# Altium integrated library Ecohydro_library.IntLib: 27 symbols
Pins are listed as number, name and electrical type; pins without a type are passive.

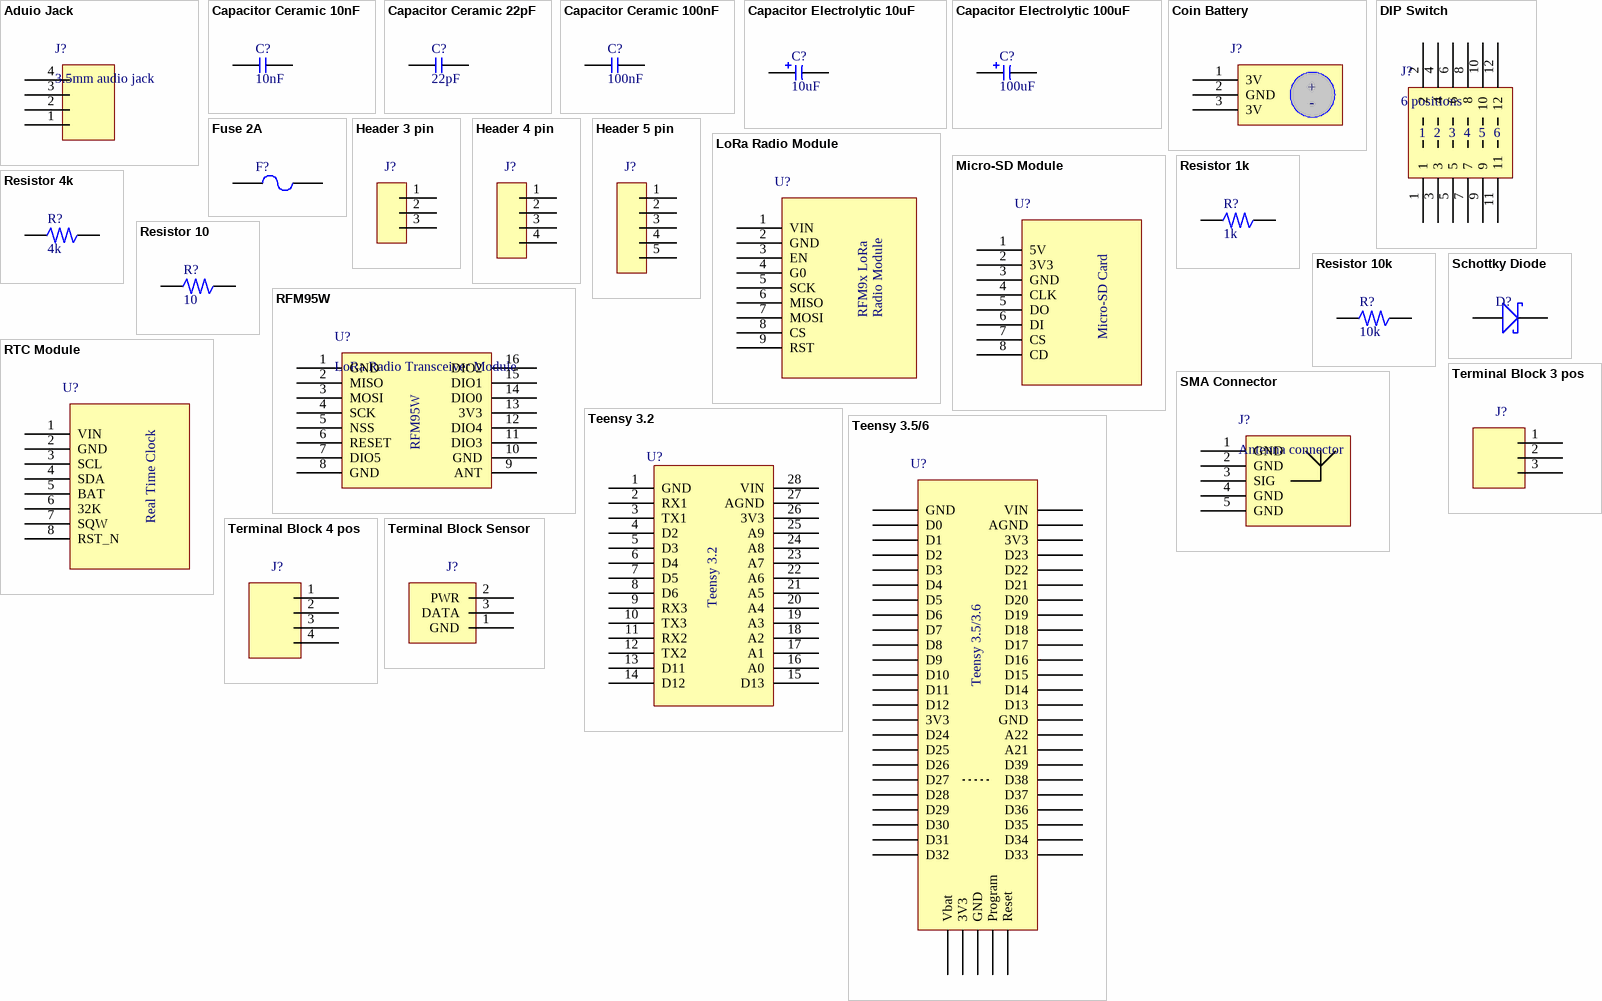
[diagram p0: symbols Aduio Jack to Terminal Block Sensor]

## Aduio Jack
designator J?, comment 3.5mm audio jack
Manufacturer: CUI; Manufacturer Part Number: SJ-3523-SMT-TR; Gender: Female; Shielding: Unshielded; Current Rating: 1A; Number of Conductors: 3; Number of Ports: 1; Supplier 1: Digi-Key; Stock 1: 136338; Pricing 1: 1 = 1.02000, 10 = 0.90000, 25 = 0.84760, 50 = 0.81220, 100 = 0.77680, 250 = 0.70620, 500 = 0.63558 (USD); RoHS: Yes; Mount: Surface Mount; Contact Plating: Silver; Color: Black; Packaging: Cut Tape; Termination: Solder; Connector Type: Jack; Orientation: Horizontal; Lead Free: Lead Free; ComponentLink1URL: https://www.cui.com/product/resource/digikeypdf/sj-352x-smt_series.pdf?src-supplier=Digi-Key; ComponentLink1Description: https://www.cui.com/product/resource/digikeypdf/sj-352x-smt_series.pdf?src-supplier=Digi-Key
footprint Audio Jack
pins: 1, 2, 3, 4

## Capacitor Ceramic 10nF
designator C?, comment 10nF
footprint 0805 SMD
pins: 1, 2

## Capacitor Ceramic 22pF
designator C?, comment 22pF
footprint 0805 SMD
pins: 1, 2

## Capacitor Ceramic 100nF
designator C?, comment 100nF
footprint 0805 SMD
pins: 1, 2

## Capacitor Electrolytic 10uF
designator C?, comment 10uF
footprint Cap small electrolytic
pins: 1, 2

## Capacitor Electrolytic 100uF
designator C?, comment 100uF
footprint Cap big electrolytic
pins: 1, 2

## Coin Battery
designator J?, comment Battery Retainer Coin, 20.0mm 1 Cell SMD (SMT) Tab  (value not drawn)
Manufacturer: Memory Protection Devices; Manufacturer Part Number: BK-883-TR; Number of Cells: 1; Supplier 1: Digi-Key; Stock 1: 118723; Pricing 1: 1 = 0.73000, 10 = 0.66100, 100 = 0.51380 (USD); RoHS: Yes; Mount: PCB,Surface Mount; Case/Package: SMD/SMT; Min Operating Temperature: -40°C; Max Operating Temperature: 270°C; Package Quantity: 450; Termination: SMD/SMT; Packaging: Cut Tape; Diameter: 20mm; Lead Free: Lead Free; ComponentLink1URL: http://media.digikey.com/pdf/Data%20Sheets/Memory%20Protection%20PDFs/BK-883-TR.pdf?src-supplier=Digi-Key; ComponentLink1Description: http://media.digikey.com/pdf/Data%20Sheets/Memory%20Protection%20PDFs/BK-883-TR.pdf?src-supplier=Digi-Key; Supplier Part Number 1: BK-883-CT-ND
footprint Coin Battery (Battery Retainer Coin, 20.0mm 1 Cell SMD (SMT) Tab)
pins: 1 3V (power), 2 GND (power), 3 3V (power)
text: +; -

## DIP Switch
designator J?, comment 6 positions
Manufacturer: TE Connectivity; Manufacturer Part Number: 1825057-5; Description: Switch DIP OFF ON SPST 6 Extended Slide 0.1A 24VDC PC Pins 2.54mm Thru-Hole Tube; Actuator Material: Polyamide; Voltage Rating (DC): 5V; Contact Resistance: 50mR; Throw Configuration: SPST; Max Current Rating: 100mA; Max Voltage Rating (DC): 24V; Number of Positions: 6; Switching Capacity: 400mW; Electrical Life: 1000Cycles; Contact Current Rating: 1A; Sealable: No (Without); Actuator Type: Standard; Pitch: 0.1inch; Actuator Length: 1mm; Contact Post Length: 4mm; Washable: Yes; Supplier 1: Digi-Key; Stock 1: 8675; Pricing 1: 1 = 1.09000, 10 = 1.06900, 25 = 1.00680, 50 = 0.94520, 100 = 0.90420, 250 = 0.86308, 500 = 0.78086, 1000 = 0.71922, 5000 = 0.58565 (USD); RoHS: Yes; Mount: Through Hole; Number of Pins: 6; Contact Material: Copper Alloy; Contact Plating: Gold; Housing Color: Black; Housing Material: Polyphenylene; Min Operating Temperature: -30°C; Max Operating Temperature: 85°C; Package Quantity: 25; Packaging: Rail/Tube; Termination: PC Pins; Number of Circuits: 6; Orientation: Straight; Type: Switch; Length: 17.22mm; Height: 0.138inch; Width: 7.5mm; Terminal Pitch: 2.54mm; Depth: 7.49mm; Radiation Hardening: No; REACH SVHC: No SVHC; Lead Free: Lead Free; ELV: Compliant; Flammability Rating: UL94 V-0; ComponentLink1URL: https://datasheet.ciiva.com/16312/eng-cs-1308111-1-switches-core-program-catalog-0308-16312710.pdf?src-supplier=Future+Electronics; ComponentLink1Description: https://datasheet.ciiva.com/16312/eng-cs-1308111-1-switches-core-program-catalog-0308-16312710.pdf?src-supplier=Future+Electronics; ComponentLink2URL: https://datasheet.ciiva.com/26330/701621-da-01-en-dip-schalter-6polade-0604-26330291.pdf?src-supplier=Conrad; ComponentLink2Description: https://datasheet.ciiva.com/26330/701621-da-01-en-dip-schalter-6polade-0604-26330291.pdf?src-supplier=Conrad; ComponentLink3URL: https://datasheet.ciiva.com/8677/eng-cd-1825057-o2-8677113.pdf?src-supplier=Avnet; ComponentLink3Description: https://datasheet.ciiva.com/8677/eng-cd-1825057-o2-8677113.pdf?src-supplier=Avnet; ComponentLink4URL: https://datasheet.ciiva.com/17431/eng-cd-1825057-o2-17431643.pdf?src-supplier=Avnet+Europe; ComponentLink4Description: https://datasheet.ciiva.com/17431/eng-cd-1825057-o2-17431643.pdf?src-supplier=Avnet+Europe; ComponentLink5URL: https://datasheet.ciiva.com/30052/7365eng-cd-1825057-o2-30052347.pdf?src-supplier=Onlinecomponents.com; ComponentLink5Description: https://datasheet.ciiva.com/30052/7365eng-cd-1825057-o2-30052347.pdf?src-supplier=Onlinecomponents.com; Supplier Part Number 1: 450-1365-ND
footprint DIP SW 6 POS (6 position dip switch)
pins: 1, 2, 3, 4, 5, 6, 7, 8, 9, 10, 11, 12

## Fuse 2A
designator F?, comment 2A  (value not drawn)
FUSE BOARD MOUNT 2A 300VAC RAD; Manufacturer: Littelfuse Wickmann; Manufacturer Part Number: 36912000000; Voltage Rating (AC): 300V; DC Cold Resistance: 29.8mR; Power Dissipation: 700mW; Fuse Type: Board Mount (Cartridge Style Excluded); Lead Length: 18.8mm; Approvals: cULus,PSE; Supplier 1: Digi-Key; Stock 1: 13538; Pricing 1: 1=0.52, 5=0.504, 10=0.489, 50=0.411, 100=0.3412, 250=0.3102, 500=0.26368 (USD); Mount: Through Hole; Case/Package: Radial; Number of Pins: 2; Min Operating Temperature: -40°C; Max Operating Temperature: 85°C; Package Quantity: 1400; Current Rating: 2A; Packaging: Ammo Pack; Termination: Radial; Current: 2A; Fuse Current: 2A; Working Voltage: 300V; Length: 8.5mm; Height: 0.315inch; Width: 0.157inch; Depth: 4mm; REACH SVHC: No SVHC; Lead Free: Lead Free; ComponentLink1URL: http://www.farnell.com/datasheets/726673.pdf; ComponentLink1Description: http://www.farnell.com/datasheets/726673.pdf; ComponentLink2URL: http://www.littelfuse.com/data/en/Data_Sheets/Littelfuse_Fuse_369.pdf; ComponentLink2Description: http://www.littelfuse.com/data/en/Data_Sheets/Littelfuse_Fuse_369.pdf; Supplier Part Number 1: F5461CT-ND
footprint FUSE 369 SERIES
pins: 1, 2

## Header 3 pin
designator J?  (value not drawn)
footprint 3 PIN HEADER
pins: 1, 2, 3

## Header 4 pin
designator J?
footprint 4 PIN HEADER
pins: 1, 2, 3, 4

## Header 5 pin
designator J?
footprint 5 PIN HEADER
pins: 1, 2, 3, 4, 5

## LoRa Radio Module
designator U?, comment RFM9x based Adafruit Module  (value not drawn)
ComponentLink1Description: Adafruit; ComponentLink1URL: https://learn.adafruit.com/adafruit-rfm69hcw-and-rfm96-rfm95-rfm98-lora-packet-padio-breakouts/downloads
footprint LORA_MOD
pins: 1 VIN, 2 GND, 3 EN, 4 G0, 5 SCK, 6 MISO, 7 MOSI, 8 CS, 9 RST
text: RFM9x LoRa; Radio Module

## Micro-SD Module
designator U?, comment Real Time Clock Adafruit Module  (value not drawn)
ComponentLink1Description: Adafruit; ComponentLink1URL: https://learn.adafruit.com/adafruit-micro-sd-breakout-board-card-tutorial/download
footprint SD_MOD
pins: 1 5V, 2 3V3, 3 GND, 4 CLK, 5 DO, 6 DI, 7 CS, 8 CD
text: Micro-SD Card

## Resistor 1k
designator R?, comment 1k
footprint 0805 SMD
pins: 1, 2

## Resistor 4k
designator R?, comment 4k
footprint 0805 SMD
pins: 1, 2

## Resistor 10
designator R?, comment 10
footprint 0805 SMD
pins: 1, 2

## Resistor 10k
designator R?, comment 10k
footprint 0805 SMD
pins: 1, 2

## RFM95W
designator U?, comment LoRa Radio Transceiver Module
Manufacturer: RF Solutions; Manufacturer Part Number: RFM95W-915S2; ComponentLink1Description: Datasheet; ComponentLink1URL: https://cdn-learn.adafruit.com/assets/assets/000/031/659/original/RFM95_96_97_98W.pdf?1460518717; Supplier 1: Digi-Key; Stock 1: 802; Pricing 1: 1 = 13.84000 (USD); Supplier Part Number 1: RFM95W-915S2-ND; ComponentLink2Description: Adafruit; ComponentLink2URL: https://www.adafruit.com/product/3072; ComponentLink3Description: Digikey; ComponentLink3URL: https://www.digikey.ca/product-detail/en/rf-solutions/RFM95W-915S2/RFM95W-915S2-ND/6564923
footprint RFM9x
pins: 1 GND, 2 MISO, 3 MOSI, 4 SCK, 5 NSS, 6 RESET, 7 DIO5, 8 GND, 9 ANT, 10 GND, 11 DIO3, 12 DIO4, 13 3V3, 14 DIO0, 15 DIO1, 16 DIO2

## RTC Module
designator U?, comment Real Time Clock Adafruit Module  (value not drawn)
ComponentLink1Description: Adafruit; ComponentLink1URL: https://learn.adafruit.com/adafruit-ds3231-precision-rtc-breakout/downloads
footprint RTC_MOD (Footprint not found)
pins: 1 VIN, 2 GND, 3 SCL, 4 SDA, 5 BAT, 6 32K, 7 SQW, 8 RST_N
text: Real Time Clock

## Schottky Diode
designator D?, comment DIODE SCHOTTKY 40V 5A DO201AD  (value not drawn)
Diode Schottky 40V 5A Through Hole DO-201AD; Manufacturer: Vishay Semiconductors; Manufacturer Part Number: SB540-E3/73; Max Surge Current: 220A; Forward Voltage: 480mV; Peak Reverse Current: 500uA; Element Configuration: Single; Supplier 1: Digi-Key; Stock 1: 6124; Pricing 1: 1=0.64, 10=0.544, 100=0.4064, 500=0.31932 (USD); Mount: Through Hole; Number of Pins: 2; Min Operating Temperature: -65°C; Max Operating Temperature: 150°C; Package Quantity: 1; Packaging: Ammo Pack; Forward Current: 5A; Average Rectified Current: 5A; Max Reverse Leakage Current: 500uA; Peak Non-Repetitive Surge Current: 220A; Max Repetitive Reverse Voltage (Vrrm): 40V; Max Reverse Voltage (DC): 40V; Radiation Hardening: No; ComponentLink1URL: http://www.vishay.com/docs/88721/sb520.pdf; ComponentLink1Description: http://www.vishay.com/docs/88721/sb520.pdf; Supplier Part Number 1: SB540-E3/73GICT-ND
footprint SCHOTTKY DIODE
footprint SCHOTTKY
pins: A (power), K (power)

## SMA Connector
designator J?, comment Antenna connector
Manufacturer: Molex; Manufacturer Part Number: 73251-1150; Body Material: Brass; Body Plating: Gold; Impedance: 50R; Connector Type: Coaxial,SMA; Gender: Female; Polarity: Normal,Standard; ComponentLink1Description: Datasheet; ComponentLink1URL: https://www.molex.com/pdm_docs/sd/732511150_sd.pdf; Supplier 1: Digi-Key; Stock 1: 9431; Pricing 1: 1 = 3.49000, 10 = 3.35300, 25 = 3.07360, 50 = 2.93400, 100 = 2.79420, 250 = 2.44492, 500 = 2.37508, 1600 = 1.95594, 3200 = 1.88608 (USD); RoHS: Yes; Mount: Edge,PCB; Case/Package: SMA; Contact Material: Copper; Contact Plating: Gold; Plating: Gold; Packaging: Bulk; Package Quantity: 1600; Termination: Solder; Orientation: Right Angle; Radiation Hardening: No; Lead Free: Lead Free; REACH SVHC: Unknown; Halogen Free: Low Halogen; ComponentLink2URL: http://www.farnell.com/datasheets/1596721.pdf?src-supplier=Farnell; ComponentLink2Description: http://www.farnell.com/datasheets/1596721.pdf?src-supplier=Farnell; ComponentLink3URL: http://www.onlinecomponents.com/productFiles/mf-MOL/367520732511150_rf_coax_nectors.pdf?src-supplier=Onlinecomponents.com; ComponentLink3Description: http://www.onlinecomponents.com/productFiles/mf-MOL/367520732511150_rf_coax_nectors.pdf?src-supplier=Onlinecomponents.com; ComponentLink4URL: http://www.molex.com/webdocs/datasheets/pdf/en-us/0732511150_RF_COAX_CONNECTORS.pdf?src-supplier=Avnet; ComponentLink4Description: http://www.molex.com/webdocs/datasheets/pdf/en-us/0732511150_RF_COAX_CONNECTORS.pdf?src-supplier=Avnet; ComponentLink5URL: http://www.farnell.com/datasheets/2698429.pdf?src-supplier=Newark; ComponentLink5Description: http://www.farnell.com/datasheets/2698429.pdf?src-supplier=Newark; ComponentLink6URL: http://www.farnell.com/datasheets/2130139.pdf?src-supplier=Element14; ComponentLink6Description: http://www.farnell.com/datasheets/2130139.pdf?src-supplier=Element14; ComponentLink7URL: http://www.mouser.com/ds/2/276/0732511150_RF_COAX_CONNECTORS-173168.pdf?src-supplier=Mouser; ComponentLink7Description: http://www.mouser.com/ds/2/276/0732511150_RF_COAX_CONNECTORS-173168.pdf?src-supplier=Mouser; ComponentLink8URL: http://www.molex.com/webdocs/datasheets/pdf/en-us/0732511150_RF_COAX_CONNECTORS.pdf?src-supplier=Avnet+Europe; ComponentLink8Description: http://www.molex.com/webdocs/datasheets/pdf/en-us/0732511150_RF_COAX_CONNECTORS.pdf?src-supplier=Avnet+Europe; ComponentLink9URL: http://www.onlinecomponents.com/productFiles/mf-MOL/473370732511150_rf_coax_nectors.pdf?src-supplier=Onlinecomponents.com; ComponentLink9Description: http://www.onlinecomponents.com/productFiles/mf-MOL/473370732511150_rf_coax_nectors.pdf?src-supplier=Onlinecomponents.com; ComponentLink10URL: http://www.farnell.com/datasheets/1596721.pdf?src-supplier=Element14; ComponentLink10Description: http://www.farnell.com/datasheets/1596721.pdf?src-supplier=Element14; ComponentLink11URL: http://uk.rs-online.com/webdocs/13c4/0900766b813c49cf.pdf?src-supplier=RSComponents; ComponentLink11Description: http://uk.rs-online.com/webdocs/13c4/0900766b813c49cf.pdf?src-supplier=RSComponents; Supplier Part Number 1: WM5534-ND
footprint SMA Edge Connector (Antenna Edge Connector)
pins: 1 GND, 2 GND, 3 SIG, 4 GND, 5 GND

## Teensy 3.2
designator U?  (value not drawn)
footprint Teensy 3.2 (Footprint not found)
pins: 1 GND, 2 RX1, 3 TX1, 4 D2, 5 D3, 6 D4, 7 D5, 8 D6, 9 RX3, 10 TX3, 11 RX2, 12 TX2, 13 D11, 14 D12, 15 D13, 16 A0, 17 A1, 18 A2, 19 A3, 20 A4, 21 A5, 22 A6, 23 A7, 24 A8, 25 A9, 26 3V3, 27 AGND, 28 VIN

## Teensy 3.5/6
designator U?, comment Teensy 3.5/3.6  (value not drawn)
footprint Teensy 3.6
pins: 1 GND, 2 D0, 3 D1, 4 D2, 5 D3, 6 D4, 7 D5, 8 D6, 9 D7, 10 D8, 11 D9, 12 D10, 13 D11, 14 D12, 15 3V3, 16 D24, 17 D25, 18 D26, 19 D27, 20 D28, 21 D29, 22 D30, 23 D31, 24 D32, 25 D33, 26 D34, 27 D35, 28 D36, 29 D37, 30 D38, 31 D39, 32 A21, 33 A22, 34 GND, 35 D13, 36 D14, 37 D15, 38 D16, 39 D17, 40 D18, 41 D19, 42 D20, 43 D21, 44 D22, 45 D23, 46 3V3, 47 AGND, 48 VIN, 49 Vbat, 50 3V3, 51 GND, 52 Program, 53 Reset

## Terminal Block 3 pos
designator J?, comment TERM BLOCK PCB 3POS 3.5MM GREEN  (value not drawn)
3 Position Wire to Board Terminal Block 45° (135°) Angle with Board 0.138" (3.50mm) Through Hole; Manufacturer: Phoenix Contact; Manufacturer Part Number: 1985205; Number of Poles: 3; Voltage Rating: 250V; Max Current Rating: 2A; Number of Levels: 1; Voltage: 300V; Wire Gauge (Max): 24AWG; Wire Gauge (Min): 16AWG; Stripping Length: 8mm; Approvals: UL,VDE; Supplier 1: Digi-Key; Stock 1: 12841; Pricing 1: 1=0.41, 10=0.391, 50=0.374, 100=0.3638, 250=0.34, 500=0.3128, 1000=0.289 (USD); Mount: Through Hole; Number of Pins: 3; Weight: 0.054322oz; Colour: Green; Material: Nylon; Housing Colour: Green; Housing Material: Polyamide; Insulation Material: Nylon; Contact Material: Tin; Current Rating: 2A; Package Quantity: 250; Packaging: Bulk; Number of Rows: 1; Max Supply Voltage: 250V; Number of Positions Per Level: 3; Current: 2A; Termination: Solder; Number of Positions: 3; Number of Contacts: 3; Number of Circuits: 3; Length: 12mm; Height: 13.1mm; Width: 16.7mm; Pitch: 3.5mm; Depth: 12mm; Wire/Cable Gauge: 16AWG; Radiation Hardening: No; Lead Free: Lead Free; Flammability Rating: UL94 V-2; ComponentLink1URL: https://media.digikey.com/pdf/Data%20Sheets/Phoenix%20Contact%20PDFs/COMBICON%20Spring-Cage%20PCB%20Term.%20Blocks.pdf; ComponentLink1Description: https://media.digikey.com/pdf/Data%20Sheets/Phoenix%20Contact%20PDFs/COMBICON%20Spring-Cage%20PCB%20Term.%20Blocks.pdf; ComponentLink2URL: https://www.verical.com/server-webapp/html/getDatasheet?partID=743520; ComponentLink2Description: https://www.verical.com/server-webapp/html/getDatasheet?partID=743520; ComponentLink3URL: https://www.alliedelec.com/m/d/46afd96412b1b8fa400ea99294e4d68a.pdf; ComponentLink3Description: https://www.alliedelec.com/m/d/46afd96412b1b8fa400ea99294e4d68a.pdf; Supplier Part Number 1: 277-1623-ND
footprint Terminal block 3 position
footprint Audio Jack and Terminal
footprint Terminal block 3 position - label
pins: 1, 2, 3

## Terminal Block 4 pos
designator J?, comment TERM BLOCK PCB 4POS 3.5MM GREEN  (value not drawn)
4 Position Wire to Board Terminal Block 45° (135°) Angle with Board 0.138" (3.50mm) Through Hole; Manufacturer: Phoenix Contact; Manufacturer Part Number: 1985205; Number of Poles: 3; Voltage Rating: 250V; Max Current Rating: 2A; Number of Levels: 1; Voltage: 300V; Wire Gauge (Max): 24AWG; Wire Gauge (Min): 16AWG; Stripping Length: 8mm; Approvals: UL,VDE; Stock 1: 12841; Pricing 1: 1=0.41, 10=0.391, 50=0.374, 100=0.3638, 250=0.34, 500=0.3128, 1000=0.289 (USD); Mount: Through Hole; Number of Pins: 3; Weight: 0.054322oz; Colour: Green; Material: Nylon; Housing Colour: Green; Housing Material: Polyamide; Insulation Material: Nylon; Contact Material: Tin; Current Rating: 2A; Package Quantity: 250; Packaging: Bulk; Number of Rows: 1; Max Supply Voltage: 250V; Number of Positions Per Level: 3; Current: 2A; Termination: Solder; Number of Positions: 3; Number of Contacts: 3; Number of Circuits: 3; Length: 12mm; Height: 13.1mm; Width: 16.7mm; Pitch: 3.5mm; Depth: 12mm; Wire/Cable Gauge: 16AWG; Radiation Hardening: No; Lead Free: Lead Free; Flammability Rating: UL94 V-2; ComponentLink1URL: https://media.digikey.com/pdf/Data%20Sheets/Phoenix%20Contact%20PDFs/COMBICON%20Spring-Cage%20PCB%20Term.%20Blocks.pdf; ComponentLink1Description: https://media.digikey.com/pdf/Data%20Sheets/Phoenix%20Contact%20PDFs/COMBICON%20Spring-Cage%20PCB%20Term.%20Blocks.pdf; ComponentLink2URL: https://www.verical.com/server-webapp/html/getDatasheet?partID=743520; ComponentLink2Description: https://www.verical.com/server-webapp/html/getDatasheet?partID=743520; ComponentLink3URL: https://www.alliedelec.com/m/d/46afd96412b1b8fa400ea99294e4d68a.pdf; ComponentLink3Description: https://www.alliedelec.com/m/d/46afd96412b1b8fa400ea99294e4d68a.pdf; Supplier Part Number 1: 277-1623-ND; Supplier 2: Digi-Key; Supplier 1: Digi-Key; Supplier Part Number 2: 277-1624-ND
footprint Terminal block 4 position
pins: 1, 2, 3, 4

## Terminal Block Sensor
designator J?, comment TERM BLOCK PCB 3POS 3.5MM GREEN  (value not drawn)
3 Position Wire to Board Terminal Block 45° (135°) Angle with Board 0.138" (3.50mm) Through Hole; Manufacturer: Phoenix Contact; Manufacturer Part Number: 1985205; Number of Poles: 3; Voltage Rating: 250V; Max Current Rating: 2A; Number of Levels: 1; Voltage: 300V; Wire Gauge (Max): 24AWG; Wire Gauge (Min): 16AWG; Stripping Length: 8mm; Approvals: UL,VDE; Supplier 1: Digi-Key; Stock 1: 12841; Pricing 1: 1=0.41, 10=0.391, 50=0.374, 100=0.3638, 250=0.34, 500=0.3128, 1000=0.289 (USD); Mount: Through Hole; Number of Pins: 3; Weight: 0.054322oz; Colour: Green; Material: Nylon; Housing Colour: Green; Housing Material: Polyamide; Insulation Material: Nylon; Contact Material: Tin; Current Rating: 2A; Package Quantity: 250; Packaging: Bulk; Number of Rows: 1; Max Supply Voltage: 250V; Number of Positions Per Level: 3; Current: 2A; Termination: Solder; Number of Positions: 3; Number of Contacts: 3; Number of Circuits: 3; Length: 12mm; Height: 13.1mm; Width: 16.7mm; Pitch: 3.5mm; Depth: 12mm; Wire/Cable Gauge: 16AWG; Radiation Hardening: No; Lead Free: Lead Free; Flammability Rating: UL94 V-2; ComponentLink1URL: https://media.digikey.com/pdf/Data%20Sheets/Phoenix%20Contact%20PDFs/COMBICON%20Spring-Cage%20PCB%20Term.%20Blocks.pdf; ComponentLink1Description: https://media.digikey.com/pdf/Data%20Sheets/Phoenix%20Contact%20PDFs/COMBICON%20Spring-Cage%20PCB%20Term.%20Blocks.pdf; ComponentLink2URL: https://www.verical.com/server-webapp/html/getDatasheet?partID=743520; ComponentLink2Description: https://www.verical.com/server-webapp/html/getDatasheet?partID=743520; ComponentLink3URL: https://www.alliedelec.com/m/d/46afd96412b1b8fa400ea99294e4d68a.pdf; ComponentLink3Description: https://www.alliedelec.com/m/d/46afd96412b1b8fa400ea99294e4d68a.pdf; Supplier Part Number 1: 277-1623-ND
footprint Terminal block SEN 3 pos
footprint Terminal Block Sen 3 pos jack
footprint Terminal block SEN 3 pos label
pins: 1 GND, 2 PWR, 3 DATA